# Altium footprint library PCB - CAPACITOR - FILM - C4AQLBW5700A3LK.PCBLIB: 1 footprints
Each footprint in its own frame and in the unit in brackets; x right, y up, seen from the top. Pads: shape width x height; smd on the part's side, far side on the other; paste and mask are expansions set on the pad; w line width, h text height; cw(c..) or ccw(c..) is an arc to the next point about the centre after c.
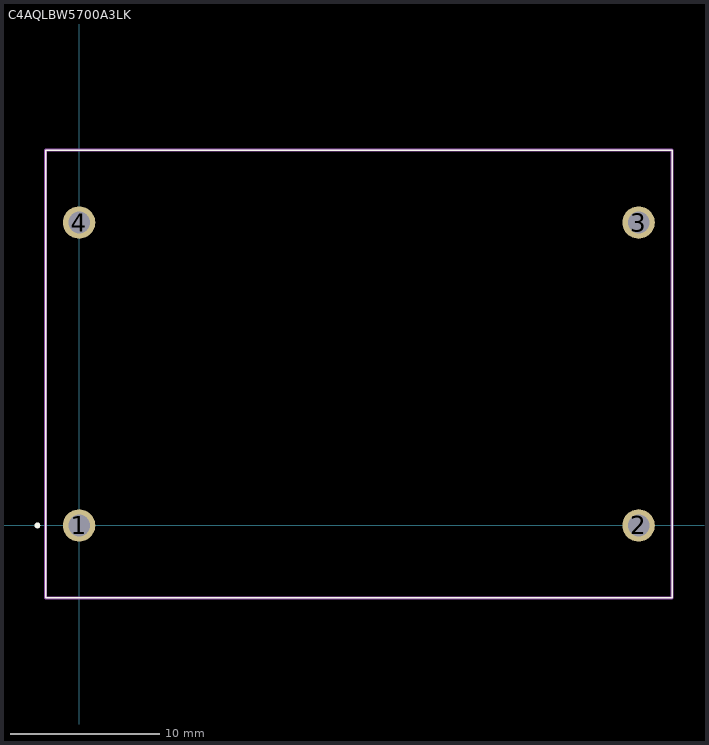
[diagram p0: the footprint, top view; thin cyan lines are the x and y axes]

## C4AQLBW5700A3LK [mm]
pads (4):
  round 2.175 hole 1.45: 1(0,0) 2(37.5,0) 3(37.5,20.3) 4(0,20.3)
Top Overlay:
  lines w0.1: -2.25,-4.85 -2.25,25.15 39.75,25.15 39.75,-4.85 -2.25,-4.85
  lines w0.2: -2.8,-0.1 ccw(c-2.8,0) -2.8,0.1 ccw(c-2.8,0) -2.8,-0.1
Top Value (Mech13):
  lines w0.2: -2.25,-4.85 -2.25,25.15 39.75,25.15 39.75,-4.85 -2.25,-4.85
3D body "C4AQLBW5700A3LK.stp": height 45.2, standoff -6, extent -2.55,-5.055 40.05,25.35